# Altium schematic symbol library RCLDQ.SCHLIB: 34 symbols
Pins are listed as number, name and electrical type; pins without a type are passive.

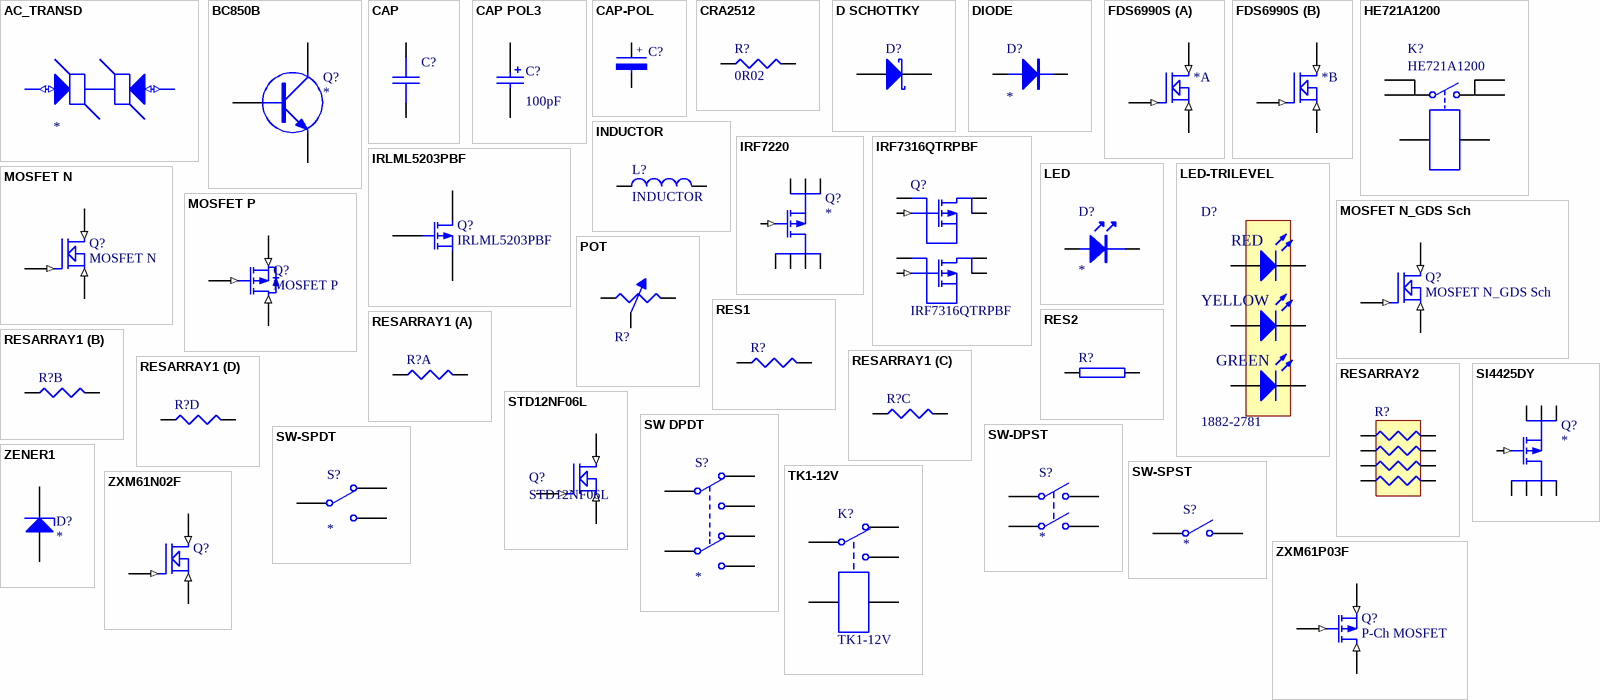
[diagram p0: symbols AC_TRANSD to ZXM61P03F]

## AC_TRANSD
designator ?
AC Transient Suppressor Diode
pins: 1 (io), 2 (io)

## BC850B
designator Q?
NPN Transistor
pins: 1 B, 2 E, 3 C

## CAP
designator C?
Capacitor
footprint RAD0.1
footprint RAD0.2
footprint RAD0.3
footprint RAD0.4
footprint 0603
footprint 0805
footprint 1206
footprint 1812
footprint 2010
footprint 2220 (5750m) (Chip Capacitor, Body 5.7x5.0mm, IPC Low Density)
pins: 1, 2

## CAP POL3
designator C?  value 100pF
Polarized Capacitor (Surface Mount); Manufacturer: Generic Components; Class I: Passive; Published: 8-Jun-2000; Revision: July-2002: Re-released for DXP Platform.; Publisher: Altium Limited; Class II: Capacitor
footprint 0603
simulation model CAP (Capacitor)
signal-integrity model Cap Pol
footprint MCCT-CASEA
footprint MCCT-CASEB
footprint MCCT-CASEC
footprint MCCT-CASED
footprint CAPMP7343X19N (Murata D4) (Molded Capacitor, 2-Leads, Body 7.3x4.3mm, IPC Medium Density)
pins: 1, 2

## CAP-POL
designator C?
Capacitor
footprint RB.2/.4
footprint RB.3/.6
footprint RB.4/.8
footprint RB.5/1.0
footprint 0603
pins: 1, 2
text: +

## CRA2512
designator R?, comment 0R02
Current Sense Resistor; Farnell: 1435948; Price: 0.736
footprint CRA2512
pins: 1, 2

## D SCHOTTKY
designator D?
Schottky Diode; Manufacturer: Generic Components; Class I: Discrete; Class II: Diode - Schottky; Published: 8-Jun-2000; Revision: July-2002: Re-released for DXP Platform.; Publisher: Altium Limited
footprint DSO-C2/X2.3 (DO-214AA)
simulation model SKYDIODE (Diode)
signal-integrity model D Schottky
ediflib Model Name (Model Description)
footprint SMB
pins: A, K

## DIODE
designator D?
Diode
footprint DIODE0.4
footprint DIODE0.7
pins: A, K

## FDS6990S
designator *
footprint SO8
part A pins: 3 S (in), 4 G (in), 5 D (in), 6 D (in)
part B pins: 1 S (in), 2 G (in), 7 D (in), 8 D (in)

## HE721A1200
designator K?
12V SPST-NO Relay; Order#: 1608142
footprint HE721A1200 (12V SPST-NO Reed Relay)
pins: 1, 2, 6, 7, 8, 14

## INDUCTOR
designator L?
Manufacturer: Generic Components; Class I: Passive; Value: 10mH; Published: 8-Jun-2000; Revision: July-2002: Re-released for DXP Platform.; Publisher: Altium Limited; Class II: Inductor
footprint C1005-0402
simulation model INDUCTOR (Inductor)
signal-integrity model Inductor
footprint 1812
footprint 0805
footprint 0603
footprint 1206
pins: 1, 2

## IRF7220
designator Q?
IRF7220 P Channel Mosfet
footprint SO8
pins: 1 S (io), 2 S (io), 3 S (io), 4 G (in), 5 D (io), 6 D (io), 7 D (io), 8 D (io)

## IRF7316QTRPBF
designator Q?
Dual P-type MOSFET IC; Farnell: 1531284; FarnellPrice: 1.47; Digikey: IRF7316QTRPBFCT-ND; DigikeyPrice: 1.8
footprint SO8
pins: 1 S1 (io), 2 G1 (in), 3 S2 (io), 4 G2 (in), 5 D2 (io), 6 D2 (io), 7 D1 (io), 8 D1 (io)

## IRLML5203PBF
designator Q?
MOSFET P-type SOT-23-3; Farnell: 9103511; FarnellPrice: 0.71
footprint SOT23-3
pins: 1 G, 2 S, 3 D

## LED
designator D?
footprint 0805LED (0805 LED)
pins: A, K

## LED-TRILEVEL
designator D?, comment 1882-2781
Three level LED; Farnell: 1461596
footprint LED_TRILEVEL
pins: 1 K, 2 K, 3 K, 4 A, 5 A, 6 A
text: RED; YELLOW; GREEN

## MOSFET N
designator Q?
footprint TO-220-UP
footprint SOT23-3
pins: 1 G (in), 2 S (in), 3 D (in)

## MOSFET N_GDS Sch
designator Q?
footprint D2PAK (TO-263) - N-FET
pins: D (in), G (in), S (in)

## MOSFET P
designator Q?
FQD7P20
footprint DPAK_P-MOSFET (FQD7P20)
pins: D (in), G (in), S (in)

## POT
designator R?
pins: 1, 2, 3

## RES1
designator R?
Resistor
footprint AXIAL-0.4
footprint AXIAL-0.3
footprint AXIAL-0.5
footprint AXIAL-0.6
footprint 0603
footprint 0805
footprint 1206
pins: 1, 2

## RES2
designator R?
footprint AXIAL-0.4
footprint AXIAL-0.3
footprint AXIAL-0.5
footprint AXIAL-0.6
footprint 0603
footprint 0805
footprint 1206
pins: 1, 2

## RESARRAY1
designator R?
Resistor Array; Manufacturer: Phicomp
footprint 0804-ARRAY (Footprint not found)
part A pins: 1, 8
part B pins: 2, 7
part C pins: 3, 6
part D pins: 4, 5

## RESARRAY2
designator R?
Resistor Array; Manufacturer: Phicomp
footprint 0804-ARRAY (Footprint not found)
pins: 1, 2, 3, 4, 5, 6, 7, 8

## SI4425DY
designator Q?
SI4425DY P Channel Mosfet; Text Field1: 473-704; Text Field2: 15.25; Text Field3: Farnell; Text Field5: The farnell web page says N-Channel, but everywhere else says P-Channel
footprint SO8
pins: 1 S (io), 2 S (io), 3 S (io), 4 G (in), 5 D (io), 6 D (io), 7 D (io), 8 D (io)

## STD12NF06L
designator Q?
N-type power MOSFET; Farnell: 9946373
footprint DPAK_N-MOSFET (STD12NF06L)
pins: 1 G (in), 2 D (in), 3 S (in)

## SW DPDT
designator S?
Switch; Manufacturer: Generic Components; Published: 24-Mar-1999; Revision: July-2002: Re-released for DXP Platform.; Publisher: Altium Limited
pins: 1 COMMON1, 2 NC1, 3 NO1, 4 NC2, 5 COMMON2, 6 NO2

## SW-DPST
designator S?
Double-Pole, Single-Throw Switch; Manufacturer: Generic Components; Published: 24-Mar-1999; Revision: July-2002: Re-released for DXP Platform.; Publisher: Altium Limited
pins: 1 COMMON1, 2 NO1, 3 COMMON2, 4 NO2

## SW-SPDT
designator S?
Single-Pole, Double-Throw Switch; Manufacturer: Generic Components; Published: 24-Mar-1999; Revision: July-2002: Re-released for DXP Platform.; Publisher: Altium Limited
pins: 1 COMMON, 2 NC, 3 NO

## SW-SPST
designator S?
Single-Pole, Single-Throw Switch; Manufacturer: Generic Components; Published: 24-Mar-1999; Revision: July-2002: Re-released for DXP Platform.; Publisher: Altium Limited
footprint Tactile_Switch (450-1804-ND)
pins: 1 COMMON, 2 NO

## TK1-12V
designator K?
SPCO 12V 2A Relay; Farnell: 1380961
footprint TK1-12V
pins: 1, 3, 4, 5, 6

## ZENER1
designator D?
Zener Diode
footprint DIODE0.4
footprint DIODE0.7
footprint SMB
pins: A, K

## ZXM61N02F
designator Q?
1.7A, 20V N-Channel Enhancement mode FET
footprint SOT23-3
pins: 1 G (in), 2 S (in), 3 D (in)

## ZXM61P03F
designator Q?, comment P-Ch MOSFET
1.1A, 30V P-Channel Enhancement mode FET
footprint SOT23-3
pins: 1 G (in), 2 S (in), 3 D (in)